# Altium schematic symbol library Inductance.SchLib: 3 symbols
Pins are listed as number, name and electrical type; pins without a type are passive.

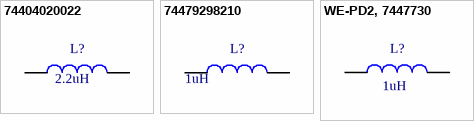
[diagram p0: symbols 74404020022 to WE-PD2, 7447730]

## 74404020022
designator L?  value 2.2uH  (hidden comment: 74404020022)
FIXED IND 2.2UH 960MA 220 MOHM; Manufacturer: Wurth Elektronik; RatedCurrent: 0.96 A; ComponentLink1Description: Manufacturer; ComponentLink1URL: http://www.we-online.de; ComponentLink2Description: Datasheet; ComponentLink2URL: http://katalog.we-online.de/pbs/datasheet/74404020022.pdf; Manufacturer Part Number: 74404020022; Supplier 1: Farnell; Supplier Part Number 1: 2749056
footprint WE-LQS_2010
pins: 1, 2

## 74479298210
designator L?  value 1uH  (hidden comment: 74479298210)
FIXED IND 1UH 2.5A 54 MOHM SMD 1210; Manufacturer: Wurth Elektronik; ComponentLink1Description: Manufacturer; ComponentLink1URL: http://www.we-online.de; ComponentLink2Description: Datasheet; ComponentLink2URL: http://katalog.we-online.de/pbs/datasheet/74479298210.pdf; Manufacturer Part Number: 74479298210; RatedCurrent: 2.5A; Supplier 1: Farnell; Supplier Part Number 1: 2543309
footprint WE-PMCI_1210
footprint WE-PMCI_1210 Side (WE-PMCI WE-PMCI Power Molded Chip Inductor, 1210 mounted on edge (manual soldering))
pins: 1, 2

## WE-PD2, 7447730
designator L?, comment value 1uH  (hidden comment: 7447730)
FIXED IND 1UH 4A 49 MOHM SMD; Manufacturer: Wurth Elektronik; ComponentLink1Description: Manufacturer; ComponentLink1URL: http://www.we-online.de; ComponentLink2Description: Datasheet; ComponentLink2URL: http://katalog.we-online.de/pbs/datasheet/7447730.pdf; Manufacturer Part Number: 7447730; RatedCurrent: 4A; Supplier 1: Farnell; Supplier Part Number 1: 1636001
footprint WE-PD2_4532
pins: 1, 2